# Altium schematic symbol library LM3525M.SchLib: 2 symbols
Pins are listed as number, name and electrical type; pins without a type are passive.

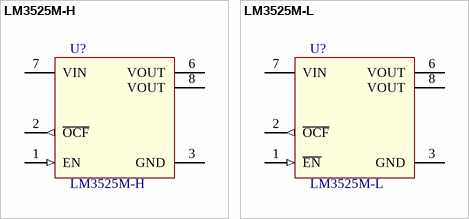
[diagram p0: symbols LM3525M-H to LM3525M-L]

## LM3525M-H
designator U?
LM3525 Single Port USB Power Switch and Over-Current Protection; value: LM3525M-H
pins: 1 EN (in), 2 ~{OCF} (out), 3 GND (power), 6 VOUT (power), 7 VIN (power), 8 VOUT

## LM3525M-L
designator U?
LM3525 Single Port USB Power Switch and Over-Current Protection; value: LM3525M-L
pins: 1 ~{EN} (in), 2 ~{OCF} (out), 3 GND (power), 6 VOUT (power), 7 VIN (power), 8 VOUT